# Altium footprint library MANEA_TCAD_PROIECT_PcbLib1.PcbLib: 36 footprints (part 2 of 3)
Each footprint in its own frame and in the unit in brackets; x right, y up, seen from the top. Pads: shape width x height; smd on the part's side, far side on the other; paste and mask are expansions set on the pad; w line width, h text height; cw(c..) or ccw(c..) is an arc to the next point about the centre after c.
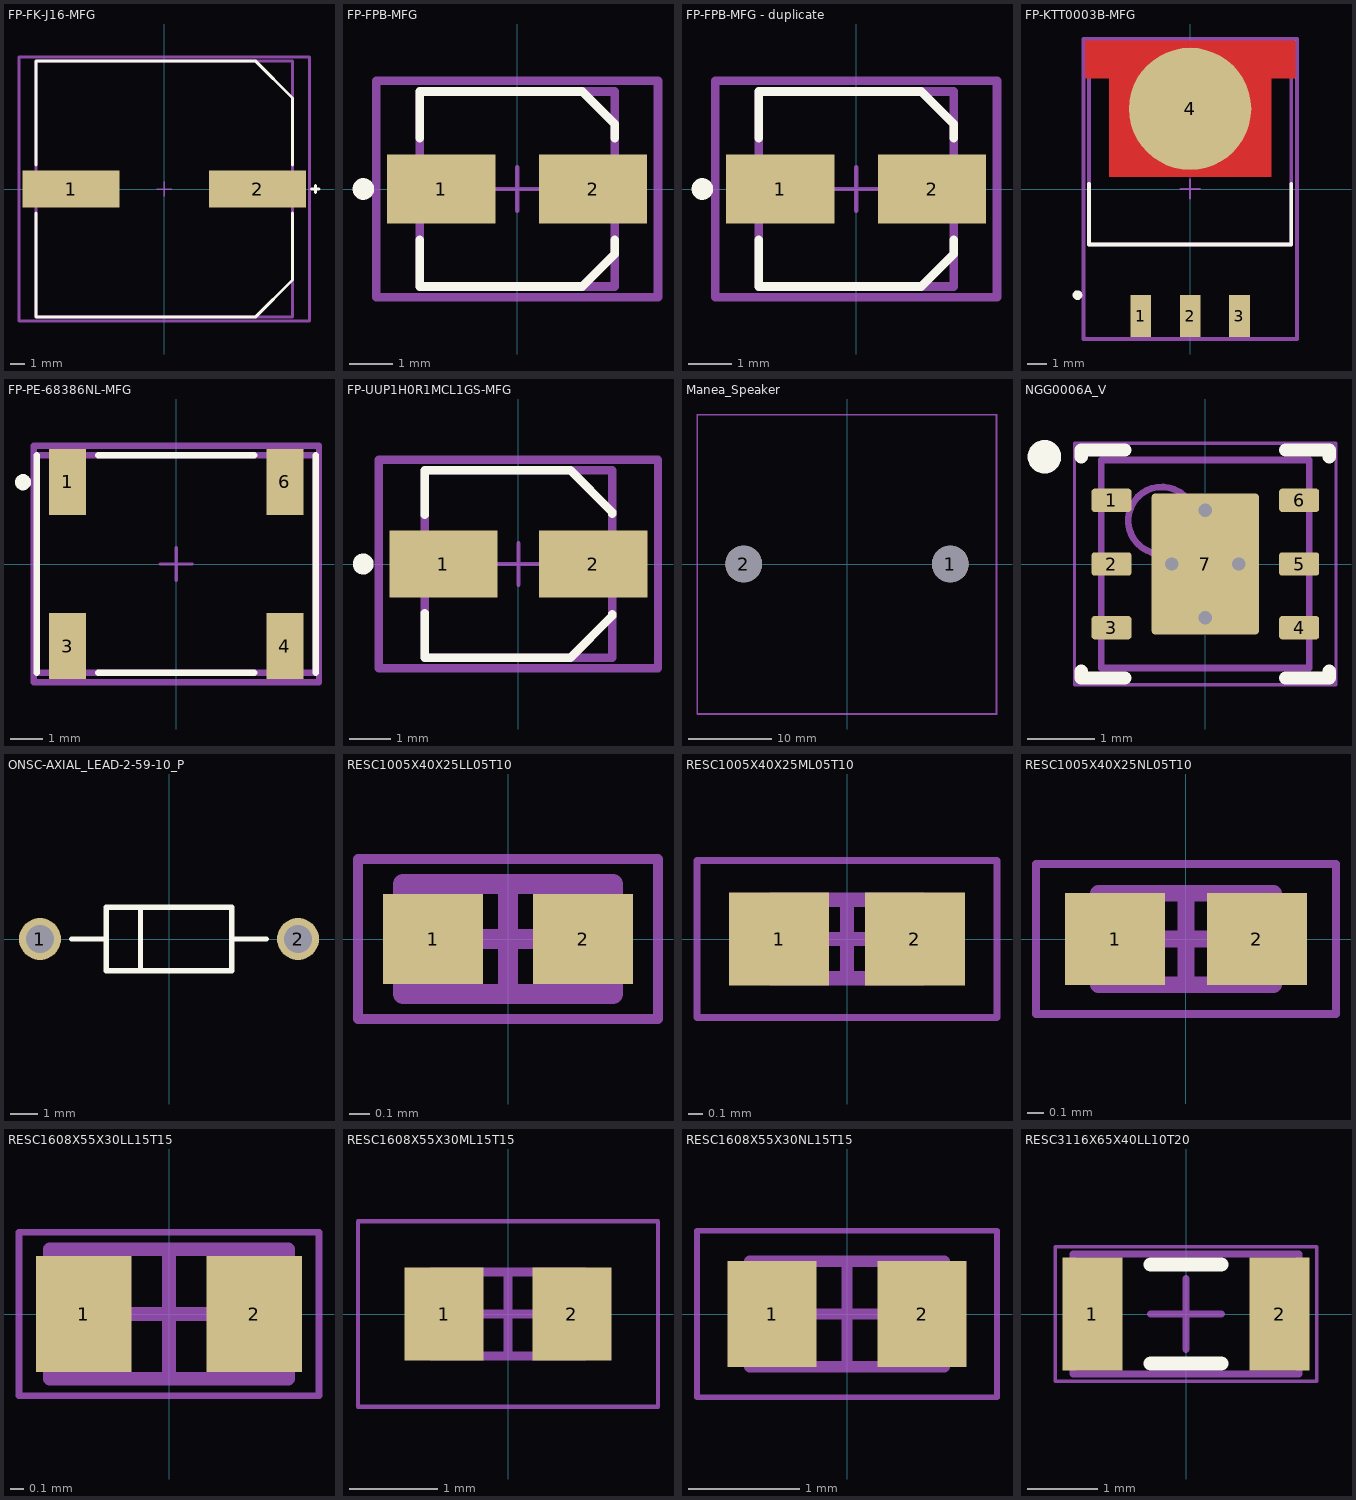
[diagram p1: the footprints below, top view; thin cyan lines are the x and y axes]

## FP-FK-J16-MFG [mm] "Manea Cap - 1mF"
pads (2):
  rect 6.5x2.5 smd paste+0 mask+0.102: 1(-6.25,0) 2(6.25,0)
Top Overlay:
  lines w0.2: -8.6,-1.625 -8.6,-8.6 6.1,-8.6 8.6,-6.1 8.6,-1.625 ; -8.6,1.625 -8.6,8.6 6.1,8.6 8.6,6.1 8.6,1.625 ; 9.875,0 10.375,0 ; 10.125,-0.25 10.125,0.25
Top Assembly:
  lines w0.2: -9.75,-8.85 -9.75,8.85 9.75,8.85 9.75,-8.85 -9.75,-8.85
  text ".Designator" at 0,-0.001 h1
Top 3D Body:
  lines w0.2: -8.6,-8.6 -8.6,8.6 8.6,8.6 8.6,-8.6 -8.6,-8.6
Top Courtyard:
  lines w0.2: -9.75,-8.85 -9.75,8.85 9.75,8.85 9.75,-8.85 -9.75,-8.85
Top Component Center:
  lines w0.1: -0.5,0 0.5,0 ; 0,-0.5 0,0.5
3D body "Cap_Panasonic_Electronic_Components_EEV-FK1H102M_eec.STEP": height 0.25, standoff 0, extent -9.75,-8.85 9.75,8.85

## FP-FPB-MFG [mm] "Manea Cap - 10μF"
pads (2):
  rect 2.5x1.6 smd paste+0 mask+0.102: 1(-1.75,0) 2(1.75,0)
Top Overlay:
  circle w0.25: c-3.55,0 r0.125
  lines w0.2: -2.251,-2.251 -2.251,-1.175 ; -2.251,1.175 -2.251,2.251 ; -2.25,-2.25 1.5,-2.25 2.25,-1.5 2.25,-1.175 ; -2.25,2.25 1.5,2.25 2.25,1.5 2.25,1.175
Top Assembly:
  lines w0.2: -3.25,-2.5 3.25,-2.5 3.25,2.5 -3.25,2.5 -3.25,-2.5
  text ".Designator" at 0,0.187 h1
Top 3D Body:
  lines w0.2: -2.25,-2.25 2.25,-2.25 2.25,2.25 -2.25,2.25 -2.25,-2.25
Top Courtyard:
  lines w0.2: -3.25,-2.5 3.25,-2.5 3.25,2.5 -3.25,2.5 -3.25,-2.5
Top Component Center:
  lines w0.1: -0.5,0 0.5,0 ; 0,-0.5 0,0.5
3D body "Cap_Panasonic_EEEFP1C100AR_eec.STEP": height 0.25, standoff 0, extent -3.25,-2.5 3.25,2.5

## FP-FPB-MFG - duplicate [mm] "Manea Cap - 10μF"
pads (2):
  rect 2.5x1.6 smd paste+0 mask+0.102: 1(-1.75,0) 2(1.75,0)
Top Overlay:
  circle w0.25: c-3.55,0 r0.125
  lines w0.2: -2.251,-2.251 -2.251,-1.175 ; -2.251,1.175 -2.251,2.251 ; -2.25,-2.25 1.5,-2.25 2.25,-1.5 2.25,-1.175 ; -2.25,2.25 1.5,2.25 2.25,1.5 2.25,1.175
Top Assembly:
  lines w0.2: -3.25,-2.5 3.25,-2.5 3.25,2.5 -3.25,2.5 -3.25,-2.5
  text ".Designator" at 0,0.187 h1
Top 3D Body:
  lines w0.2: -2.25,-2.25 2.25,-2.25 2.25,2.25 -2.25,2.25 -2.25,-2.25
Top Courtyard:
  lines w0.2: -3.25,-2.5 3.25,-2.5 3.25,2.5 -3.25,2.5 -3.25,-2.5
Top Component Center:
  lines w0.1: -0.5,0 0.5,0 ; 0,-0.5 0,0.5
3D body "Cap_Panasonic_EEEFP1C100AR_eec.STEP": height 0.25, standoff 0, extent -3.25,-2.5 3.25,2.5

## FP-KTT0003B-MFG [mm] "xxxxxxxxxxxxx- Integrated Circuit (LM7812) [ IC1 ]"
pads (4):
  rect 1.07x2.16 smd paste+0 mask+0: 1(-2.54,-6.545) 2(0,-6.545) 3(2.54,-6.545)
  round 6.291 smd paste+0 mask+0: 4(0,4.13)
Top Layer:
  region: 5.4,7.625 -5.4,7.625 -5.4,5.715 -4.165,5.715 -4.165,0.635 4.165,0.635 4.165,5.715 5.4,5.715
Top Overlay:
  circle w0.25: c-5.805,-5.465 r0.125
  lines w0.2: -5.205,0.26 -5.205,-2.86 5.205,-2.86 5.205,0.26
Top Assembly:
  lines w0.2: -5.5,-7.725 -5.5,7.725 5.5,7.725 5.5,-7.725 -5.5,-7.725
  text ".Designator" at 0,-0.001 h1
Top 3D Body:
  lines w0.2: -5.205,-2.86 -5.205,6.03 5.205,6.03 5.205,-2.86 -5.205,-2.86
Top Courtyard:
  lines w0.2: -5.5,-7.725 -5.5,7.725 5.5,7.725 5.5,-7.725 -5.5,-7.725
Top Component Center:
  lines w0.1: -0.5,0 0.5,0 ; 0,-0.5 0,0.5
3D body "IC_Texas_Instruments_LM3940ISX-3_3-NOPB_eec.STEP": height 0.25, standoff 0, extent -5.5,-7.725 5.5,7.725

## FP-PE-68386NL-MFG [mil] "Manea Transformator"
pads (4):
  rect 45x80 smd paste+0 mask+0: 1(-132.5,100) 3(-132.5,-100) 4(132.5,-100) 6(132.5,100)
Top Overlay:
  circle w9.84: c-186.73,99.65 r4.92
  lines w7.87: -169.76,-132.5 -170,-132.5 -170,132.5 -169.76,132.5 ; -95.24,-132.5 95.24,-132.5 ; -95.24,132.5 95.24,132.5 ; 169.76,-132.5 170,-132.5 170,132.5 169.76,132.5
Top Assembly:
  lines w7.87: -173.94,-143.94 173.94,-143.94 173.94,143.94 -173.94,143.94 -173.94,-143.94
  text ".Designator" at 0,7.38 h39.37
Top 3D Body:
  lines w7.87: -170,-132.5 170,-132.5 170,132.5 -170,132.5 -170,-132.5
Top Courtyard:
  lines w7.87: -173.94,-143.94 173.94,-143.94 173.94,143.94 -173.94,143.94 -173.94,-143.94
Top Component Center:
  lines w3.94: -19.68,0 19.68,0 ; 0,-19.68 0,19.68
3D body "Trans_Pulse_Electronics_Corporation_PE-68386NL_eec.STEP": height 10, standoff 0, extent -173.94,-143.94 173.94,143.94

## FP-UUP1H0R1MCL1GS-MFG [mm] "Manea Cap - 100nf"
pads (2):
  rect 2.6x1.6 smd paste+0 mask+0.102: 1(-1.8,0) 2(1.8,0)
Top Overlay:
  circle w0.25: c-3.725,0 r0.125
  lines w0.2: -2.25,-1.175 -2.25,-2.25 1.25,-2.25 2.25,-1.25 2.25,-1.2 ; -2.25,1.175 -2.25,2.25 1.25,2.25 2.25,1.25 2.25,1.2
Top Assembly:
  lines w0.2: -3.35,-2.5 3.35,-2.5 3.35,2.5 -3.35,2.5 -3.35,-2.5
  text ".Designator" at 0,0.187 h1
Top 3D Body:
  lines w0.2: -2.25,-2.25 2.25,-2.25 2.25,2.25 -2.25,2.25 -2.25,-2.25
Top Courtyard:
  lines w0.2: -3.35,-2.5 3.35,-2.5 3.35,2.5 -3.35,2.5 -3.35,-2.5
Top Component Center:
  lines w0.1: -0.5,0 0.5,0 ; 0,-0.5 0,0.5
3D body "Cap_Nichicon_UUP1H0R1MCL1GS_eec.STEP": height 0.25, standoff 0, extent -3.35,-2.5 3.35,2.5

## Manea_Speaker [mm] "36 mm, Round Frame, 2.0 W, 8 Ohm, Neodymium Magnet, Paper Cone, Speaker [CLS0361 - Same Sky]"
pads (2):
  round 4.4 hole 4.4 unplated paste-2539.97 mask+0: 1(12.4,0) 2(-12.4,0)
Mechanical 1:
  lines w0.1: -17.9,-17.9 17.9,-17.9 17.9,17.9 -17.9,17.9 -17.9,-17.9
Top Designator:
  lines w0.1: -18,-18 18,-18 18,18 -18,18 -18,-18
3D body "CLS0361--3DModel-STEP-1.STEP": height 6, standoff 0, extent -18,-18 18,18

## NGG0006A_V [mm] "Manea - Integrated Circuit (LM1877N) [ IC2-3 ]            SON, 6-Leads, Body 3x3 mm, Pitch 0.95mm, Full Paste, NSC Recommended"
height 0.8
pads (7):
  rrect29% 0.6x0.35 smd paste-0.175 mask+0.051: 1(-1.4,0.95) 2(-1.4,0) 3(-1.4,-0.95) 4(1.4,-0.95) 5(1.4,0) 6(1.4,0.95)
  rrect6% 1.6x2.1 smd paste-0.8 mask+0.051: 7(0,0)
via 0,-0.8 diameter 0.5 hole 0.2
via 0.5,0 diameter 0.5 hole 0.2
via 0,0.8 diameter 0.5 hole 0.2
via -0.5,0 diameter 0.5 hole 0.2
Top Overlay:
  circle w0.25: c-2.4,1.6 r0.125
  lines w0.2: -1.85,-1.6 -1.85,-1.7 -1.2,-1.7 ; -1.85,1.6 -1.85,1.7 -1.2,1.7 ; 1.2,-1.7 1.85,-1.7 1.85,-1.6 ; 1.2,1.7 1.85,1.7 1.85,1.6
Top Paste:
  rectangle: -0.76,-1 0.76,1
  region: 1.9,1.125 1.2,1.125 1.2,0.775 1.9,0.775
  region: 1.9,0.175 1.2,0.175 1.2,-0.175 1.9,-0.175
  region: 1.9,-0.775 1.2,-0.775 1.2,-1.125 1.9,-1.125
  rectangle: -1.9,-1.125 -1.2,-0.775
  rectangle: -1.9,-0.175 -1.2,0.175
  rectangle: -1.9,0.775 -1.2,1.125
Mechanical 1:
  text ".Designator" at -1.143,-0.762 h0.6
Top 3D Body:
  circle w0.1: c-0.65,0.65 r0.5
  lines w0.1: -1.55,-1.55 1.55,-1.55 1.55,1.55 -1.55,1.55 -1.55,-1.55
Top Courtyard:
  lines w0.05: -1.95,-1.8 -1.95,1.8 1.95,1.8 1.95,-1.8 -1.95,-1.8
  lines w0.1: -0.5,0 0.5,0 ; 0,-0.5 0,0.5
3D body: height 0.8, standoff 0, extent -1.55,-1.55 1.55,1.55

## ONSC-AXIAL_LEAD-2-59-10_P [mm] "AXIAL, 2-Leads, Diameter 2.35mm"
height 2.35
pads (2):
  round 1.55 hole 1.05: 1(-4.77,0) 2(4.77,0)
Top Overlay:
  lines w0.2: -3.595,0 -2.325,0 ; -1.055,-1.175 -1.055,1.175 ; 2.325,0 3.595,0 ; -2.325,-1.175 -2.325,1.175 2.325,1.175 2.325,-1.175 -2.325,-1.175

## RESC1005X40X25LL05T10 [mm] "Manea - Resistor 1MΩ (big) Chip Resistor, 2-Leads, Body 1.00x0.50mm, IPC High Density"
height 0.4
pads (2):
  rect 0.5x0.45 smd: 1(-0.375,0) 2(0.375,0)
Top 3D Body:
  lines w0.1: -0.525,-0.275 -0.525,0.275 0.525,0.275 0.525,-0.275 -0.525,-0.275
Top Courtyard:
  lines w0.05: -0.75,-0.4 -0.75,0.4 0.75,0.4 0.75,-0.4 -0.75,-0.4
  lines w0.1: -0.275,0 0.275,0 ; 0,-0.275 0,0.275
3D body: height 0.4, standoff 0, extent -0.275,-0.275 0.275,0.275
3D body: height 0.4, standoff 0, extent -0.525,-0.275 -0.275,0.275
3D body: height 0.4, standoff 0, extent 0.275,-0.275 0.525,0.275

## RESC1005X40X25ML05T10 [mm] "Manea - Resistor 1MΩ (small) Chip Resistor, 2-Leads, Body 1.00x0.50mm, IPC Low Density"
height 0.4
pads (2):
  rect 0.7x0.65 smd: 1(-0.475,0) 2(0.475,0)
Top 3D Body:
  lines w0.1: -0.525,-0.275 -0.525,0.275 0.525,0.275 0.525,-0.275 -0.525,-0.275
Top Courtyard:
  lines w0.05: -1.05,-0.55 -1.05,0.55 1.05,0.55 1.05,-0.55 -1.05,-0.55
  lines w0.1: -0.275,0 0.275,0 ; 0,-0.275 0,0.275
3D body: height 0.4, standoff 0, extent -0.275,-0.275 0.275,0.275
3D body: height 0.4, standoff 0, extent -0.525,-0.275 -0.275,0.275
3D body: height 0.4, standoff 0, extent 0.275,-0.275 0.525,0.275

## RESC1005X40X25NL05T10 [mm] "Manea - Resistor 1MΩ (mid) Chip Resistor, 2-Leads, Body 1.00x0.50mm, IPC Medium Density"
height 0.4
pads (2):
  rect 0.6x0.55 smd: 1(-0.425,0) 2(0.425,0)
Top 3D Body:
  lines w0.1: -0.525,-0.275 0.525,-0.275 0.525,0.275 -0.525,0.275 -0.525,-0.275
Top Courtyard:
  lines w0.05: -0.9,-0.45 0.9,-0.45 0.9,0.45 -0.9,0.45 -0.9,-0.45
  lines w0.1: -0.275,0 0.275,0 ; 0,-0.275 0,0.275
3D body: height 0.4, standoff 0, extent 0.275,-0.275 0.525,0.275
3D body: height 0.4, standoff 0, extent -0.525,-0.275 -0.275,0.275
3D body: height 0.4, standoff 0, extent -0.275,-0.275 0.275,0.275

## RESC1608X55X30LL15T15 [mm] "Manea - Resistor 100kΩ (big) Chip Resistor, 2-Leads, Body 1.60x0.80mm, IPC High Density"
height 0.55
pads (2):
  rect 0.7x0.85 smd: 1(-0.625,0) 2(0.625,0)
Top 3D Body:
  lines w0.1: -0.875,-0.475 0.875,-0.475 0.875,0.475 -0.875,0.475 -0.875,-0.475
Top Courtyard:
  lines w0.05: -1.1,-0.6 1.1,-0.6 1.1,0.6 -1.1,0.6 -1.1,-0.6
  lines w0.1: -0.475,0 0.475,0 ; 0,-0.475 0,0.475
3D body: height 0.55, standoff 0, extent 0.575,-0.475 0.875,0.475
3D body: height 0.55, standoff 0, extent -0.875,-0.475 -0.575,0.475
3D body: height 0.55, standoff 0, extent -0.575,-0.475 0.575,0.475

## RESC1608X55X30ML15T15 [mm] "Manea - Resistor 100kΩ (small) Chip Resistor, 2-Leads, Body 1.60x0.80mm, IPC Low Density"
height 0.55
pads (2):
  rect 0.9x1.05 smd: 1(-0.725,0) 2(0.725,0)
Top 3D Body:
  lines w0.1: -0.875,-0.475 -0.875,0.475 0.875,0.475 0.875,-0.475 -0.875,-0.475
Top Courtyard:
  lines w0.05: -1.7,-1.05 -1.7,1.05 1.7,1.05 1.7,-1.05 -1.7,-1.05
  lines w0.1: -0.475,0 0.475,0 ; 0,-0.475 0,0.475
3D body: height 0.55, standoff 0, extent -0.575,-0.475 0.575,0.475
3D body: height 0.55, standoff 0, extent -0.875,-0.475 -0.575,0.475
3D body: height 0.55, standoff 0, extent 0.575,-0.475 0.875,0.475

## RESC1608X55X30NL15T15 [mm] "Manea - Resistor 100kΩ (mid) Chip Resistor, 2-Leads, Body 1.60x0.80mm, IPC Medium Density"
height 0.55
pads (2):
  rect 0.8x0.95 smd: 1(-0.675,0) 2(0.675,0)
Top 3D Body:
  lines w0.1: -0.875,-0.475 0.875,-0.475 0.875,0.475 -0.875,0.475 -0.875,-0.475
Top Courtyard:
  lines w0.05: -1.35,-0.75 1.35,-0.75 1.35,0.75 -1.35,0.75 -1.35,-0.75
  lines w0.1: -0.475,0 0.475,0 ; 0,-0.475 0,0.475
3D body: height 0.55, standoff 0, extent 0.575,-0.475 0.875,0.475
3D body: height 0.55, standoff 0, extent -0.875,-0.475 -0.575,0.475
3D body: height 0.55, standoff 0, extent -0.575,-0.475 0.575,0.475

## RESC3116X65X40LL10T20 [mm] "Manea - Resistor 1kΩ (big) Chip Resistor, 2-Leads, Body 3.10x1.60mm, IPC High Density"
height 0.65
pads (2):
  rect 0.85x1.6 smd: 1(-1.325,0) 2(1.325,0)
Top Overlay:
  lines w0.2: -0.5,-0.7 0.5,-0.7 ; -0.5,0.7 0.5,0.7
Top 3D Body:
  lines w0.1: -1.6,-0.85 -1.6,0.85 1.6,0.85 1.6,-0.85 -1.6,-0.85
Top Courtyard:
  lines w0.05: -1.85,-0.95 -1.85,0.95 1.85,0.95 1.85,-0.95 -1.85,-0.95
  lines w0.1: -0.5,0 0.5,0 ; 0,-0.5 0,0.5
3D body: height 0.65, standoff 0, extent -1.2,-0.85 1.2,0.85
3D body: height 0.65, standoff 0, extent -1.6,-0.85 -1.2,0.85
3D body: height 0.65, standoff 0, extent 1.2,-0.85 1.6,0.85